# EAGLE library part 74*573 (library IC)
Octal Buffer/Line Driver with 3-State Outputs
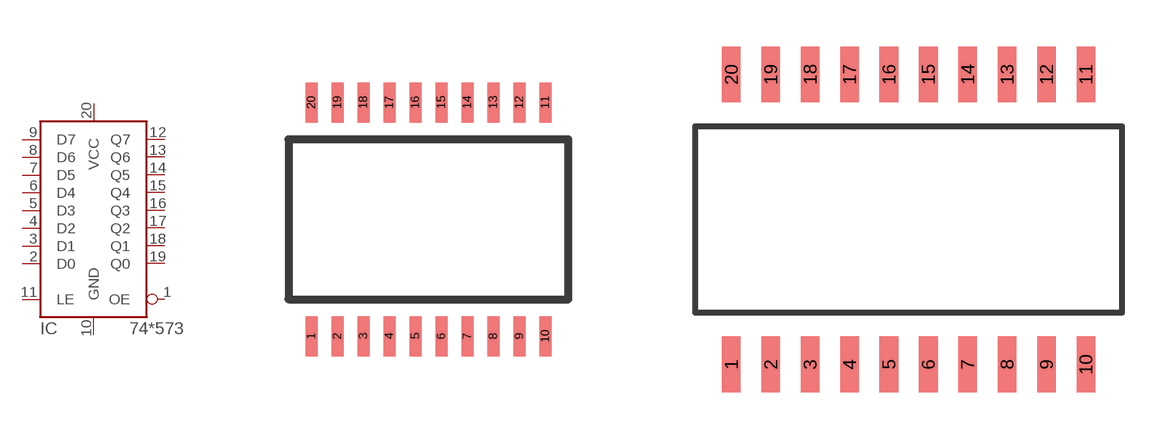
[diagram p154: symbol with the pads of TSSOP20; footprints TSSOP20, SOIC20]

Designator prefix IC

## 74AC573DTR, 74ACT573DTR  [TSSOP20]
1  OE
2  D0
3  D1
4  D2
5  D3
6  D4
7  D5
8  D6
9  D7
10  GND  pwr
11  LE
12  Q7
13  Q6
14  Q5
15  Q4
16  Q3
17  Q2
18  Q1
19  Q0
20  VCC  pwr

## 74AC573DW, 74ACT573DW  [SOIC20]
Pads as for TSSOP20

## Footprint TSSOP20 (pad centres in mm)
smd 0.3 x 1: 1 -2.925,-2.925; 2 -2.275,-2.925; 3 -1.625,-2.925; 4 -0.975,-2.925; 5 -0.325,-2.925; 6 0.325,-2.925; 7 0.975,-2.925; 8 1.625,-2.925; 9 2.275,-2.925; 10 2.925,-2.925; 11 2.925,2.925; 12 2.275,2.925; 13 1.625,2.925; 14 0.975,2.925; 15 0.325,2.925; 16 -0.325,2.925; 17 -0.975,2.925; 18 -1.625,2.925; 19 -2.275,2.925; 20 -2.925,2.925

## Footprint SOIC20 (pad centres in mm)
SOIC-20, 1.27mm pitch, 10.55mm width, 12.95mm length
smd 0.6 x 1.8: 1 -5.715,-4.679; 2 -4.445,-4.679; 3 -3.175,-4.679; 4 -1.905,-4.679; 5 -0.635,-4.679; 6 0.635,-4.679; 7 1.905,-4.679; 8 3.175,-4.679; 9 4.445,-4.679; 10 5.715,-4.679; 11 5.715,4.679; 12 4.445,4.679; 13 3.175,4.679; 14 1.905,4.679; 15 0.635,4.679; 16 -0.635,4.679; 17 -1.905,4.679; 18 -3.175,4.679; 19 -4.445,4.679; 20 -5.715,4.679